# Altium schematic symbol library SCH - MCU - NUVOTON - NUVOTON NUC442RI8AE.SchLib: 1 symbol
Pins are listed as number, name and electrical type; pins without a type are passive.

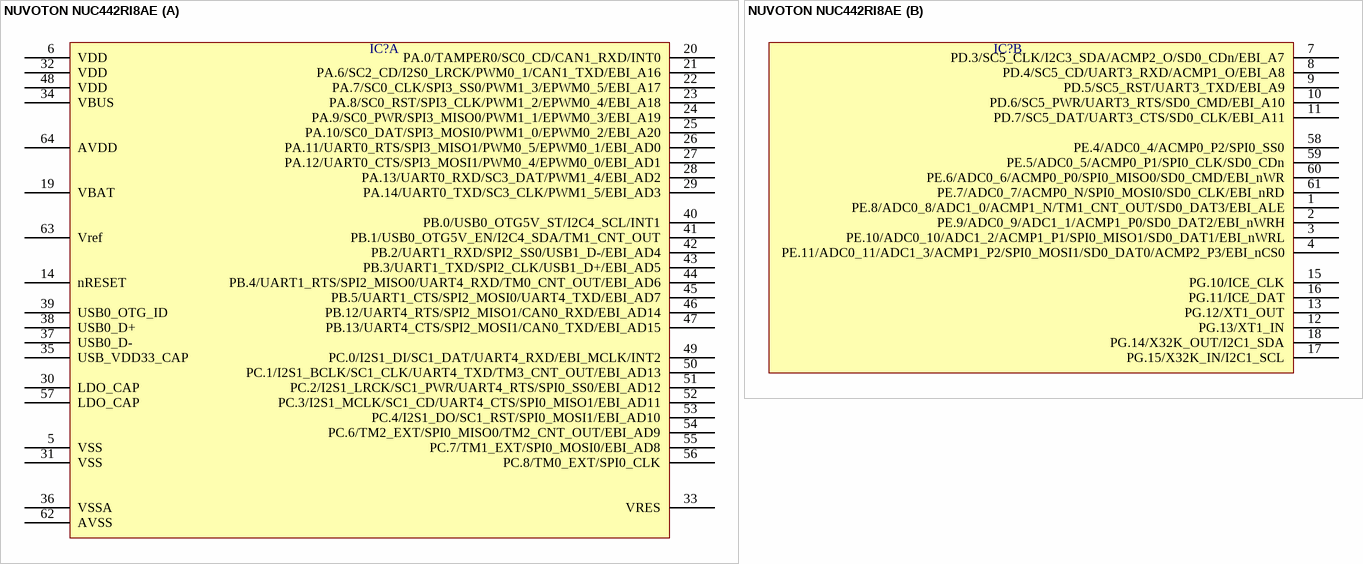
[diagram p0: symbol NUVOTON NUC442RI8AE]

## NUVOTON NUC442RI8AE
designator IC?  (value not drawn)
part A pins: 5 VSS, 6 VDD, 14 nRESET, 19 VBAT, 20 PA.0/TAMPER0/SC0_CD/CAN1_RXD/INT0, 21 PA.6/SC2_CD/I2S0_LRCK/PWM0_1/CAN1_TXD/EBI_A16, 22 PA.7/SC0_CLK/SPI3_SS0/PWM1_3/EPWM0_5/EBI_A17, 23 PA.8/SC0_RST/SPI3_CLK/PWM1_2/EPWM0_4/EBI_A18, 24 PA.9/SC0_PWR/SPI3_MISO0/PWM1_1/EPWM0_3/EBI_A19, 25 PA.10/SC0_DAT/SPI3_MOSI0/PWM1_0/EPWM0_2/EBI_A20, 26 PA.11/UART0_RTS/SPI3_MISO1/PWM0_5/EPWM0_1/EBI_AD0, 27 PA.12/UART0_CTS/SPI3_MOSI1/PWM0_4/EPWM0_0/EBI_AD1, 28 PA.13/UART0_RXD/SC3_DAT/PWM1_4/EBI_AD2, 29 PA.14/UART0_TXD/SC3_CLK/PWM1_5/EBI_AD3, 30 LDO_CAP, 31 VSS, 32 VDD, 33 VRES, 34 VBUS, 35 USB_VDD33_CAP, 36 VSSA, 37 USB0_D-, 38 USB0_D+, 39 USB0_OTG_ID, 40 PB.0/USB0_OTG5V_ST/I2C4_SCL/INT1, 41 PB.1/USB0_OTG5V_EN/I2C4_SDA/TM1_CNT_OUT, 42 PB.2/UART1_RXD/SPI2_SS0/USB1_D-/EBI_AD4, 43 PB.3/UART1_TXD/SPI2_CLK/USB1_D+/EBI_AD5, 44 PB.4/UART1_RTS/SPI2_MISO0/UART4_RXD/TM0_CNT_OUT/EBI_AD6, 45 PB.5/UART1_CTS/SPI2_MOSI0/UART4_TXD/EBI_AD7, 46 PB.12/UART4_RTS/SPI2_MISO1/CAN0_RXD/EBI_AD14, 47 PB.13/UART4_CTS/SPI2_MOSI1/CAN0_TXD/EBI_AD15, 48 VDD, 49 PC.0/I2S1_DI/SC1_DAT/UART4_RXD/EBI_MCLK/INT2, 50 PC.1/I2S1_BCLK/SC1_CLK/UART4_TXD/TM3_CNT_OUT/EBI_AD13, 51 PC.2/I2S1_LRCK/SC1_PWR/UART4_RTS/SPI0_SS0/EBI_AD12, 52 PC.3/I2S1_MCLK/SC1_CD/UART4_CTS/SPI0_MISO1/EBI_AD11, 53 PC.4/I2S1_DO/SC1_RST/SPI0_MOSI1/EBI_AD10, 54 PC.6/TM2_EXT/SPI0_MISO0/TM2_CNT_OUT/EBI_AD9, 55 PC.7/TM1_EXT/SPI0_MOSI0/EBI_AD8, 56 PC.8/TM0_EXT/SPI0_CLK, 57 LDO_CAP, 62 AVSS, 63 Vref, 64 AVDD
part B pins: 1 PE.8/ADC0_8/ADC1_0/ACMP1_N/TM1_CNT_OUT/SD0_DAT3/EBI_ALE, 2 PE.9/ADC0_9/ADC1_1/ACMP1_P0/SD0_DAT2/EBI_nWRH, 3 PE.10/ADC0_10/ADC1_2/ACMP1_P1/SPI0_MISO1/SD0_DAT1/EBI_nWRL, 4 PE.11/ADC0_11/ADC1_3/ACMP1_P2/SPI0_MOSI1/SD0_DAT0/ACMP2_P3/EBI_nCS0, 7 PD.3/SC5_CLK/I2C3_SDA/ACMP2_O/SD0_CDn/EBI_A7, 8 PD.4/SC5_CD/UART3_RXD/ACMP1_O/EBI_A8, 9 PD.5/SC5_RST/UART3_TXD/EBI_A9, 10 PD.6/SC5_PWR/UART3_RTS/SD0_CMD/EBI_A10, 11 PD.7/SC5_DAT/UART3_CTS/SD0_CLK/EBI_A11, 12 PG.13/XT1_IN, 13 PG.12/XT1_OUT, 15 PG.10/ICE_CLK, 16 PG.11/ICE_DAT, 17 PG.15/X32K_IN/I2C1_SCL, 18 PG.14/X32K_OUT/I2C1_SDA, 58 PE.4/ADC0_4/ACMP0_P2/SPI0_SS0, 59 PE.5/ADC0_5/ACMP0_P1/SPI0_CLK/SD0_CDn, 60 PE.6/ADC0_6/ACMP0_P0/SPI0_MISO0/SD0_CMD/EBI_nWR, 61 PE.7/ADC0_7/ACMP0_N/SPI0_MOSI0/SD0_CLK/EBI_nRD